# EAGLE library part LM3S628 (library ti-parts)
Stellaris® LM3S628 Microcontroller 32bit ARM Cortex M3 core 32 KB flash, 8 KB SRAM, 50MHz, ADC
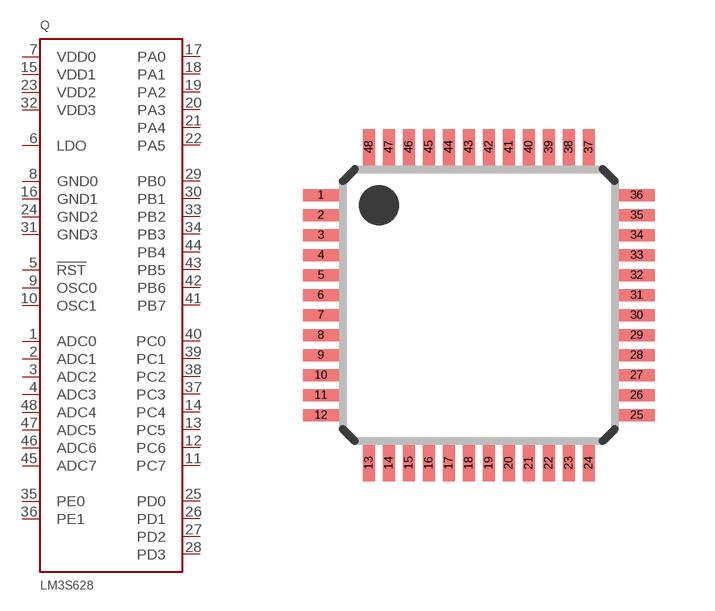
[diagram p3: symbol with the pads of LQFP48; footprint LQFP48]

Designator prefix Q

## LM3S628  [LQFP48]
1  ADC0  in
2  ADC1  in
3  ADC2  in
4  ADC3  in
5  !RST  in
6  LDO  pwr
7  VDD0  pwr
8  GND0  pwr
9  OSC0  in
10  OSC1  out
11  PC7
12  PC6
13  PC5
14  PC4
15  VDD1  pwr
16  GND1  pwr
17  PA0
18  PA1
19  PA2
20  PA3
21  PA4
22  PA5
23  VDD2  pwr
24  GND2  pwr
25  PD0
26  PD1
27  PD2
28  PD3
29  PB0
30  PB1
31  GND3  pwr
32  VDD3  pwr
33  PB2
34  PB3
35  PE0
36  PE1
37  PC3
38  PC2
39  PC1
40  PC0
41  PB7
42  PB6
43  PB5
44  PB4
45  ADC7  in
46  ADC6  in
47  ADC5  in
48  ADC4  in

## Footprint LQFP48 (pad centres in mm)
LQFP48 PT (S-PQFP-G48), 0.50mm
smd 0.9 x 0.3: 1 -3.95,2.75; 2 -3.95,2.25; 3 -3.95,1.75; 4 -3.95,1.25; 5 -3.95,0.75; 6 -3.95,0.25; 7 -3.95,-0.25; 8 -3.95,-0.75; 9 -3.95,-1.25; 10 -3.95,-1.75; 11 -3.95,-2.25; 12 -3.95,-2.75; 25 3.95,-2.75; 26 3.95,-2.25; 27 3.95,-1.75; 28 3.95,-1.25; 29 3.95,-0.75; 30 3.95,-0.25; 31 3.95,0.25; 32 3.95,0.75; 33 3.95,1.25; 34 3.95,1.75; 35 3.95,2.25; 36 3.95,2.75
smd 0.3 x 0.9: 13 -2.75,-3.95; 14 -2.25,-3.95; 15 -1.75,-3.95; 16 -1.25,-3.95; 17 -0.75,-3.95; 18 -0.25,-3.95; 19 0.25,-3.95; 20 0.75,-3.95; 21 1.25,-3.95; 22 1.75,-3.95; 23 2.25,-3.95; 24 2.75,-3.95; 37 2.75,3.95; 38 2.25,3.95; 39 1.75,3.95; 40 1.25,3.95; 41 0.75,3.95; 42 0.25,3.95; 43 -0.25,3.95; 44 -0.75,3.95; 45 -1.25,3.95; 46 -1.75,3.95; 47 -2.25,3.95; 48 -2.75,3.95